# EAGLE library part 74*244 (library we-chip)
74*244 Octal Buffer / Line Driver (3-State) HC - VCC: 2-5.5V - Input: High 2.1V @ 3V / 3.5V @ 5V AHC - VCC: 2-5.5V - Input: 5V tolerant, High 2.1V @ 3V / 3.5V @ 5V HCT - VCC: 4.5-5.5V - Input: High 2V @ 5V AHCT - VCC: 4.5-5.5V - Input: High 2V @ 5V LVC - VCC: 1.65-3.6V - Input: 5V tolerant, High 2V @ 3V
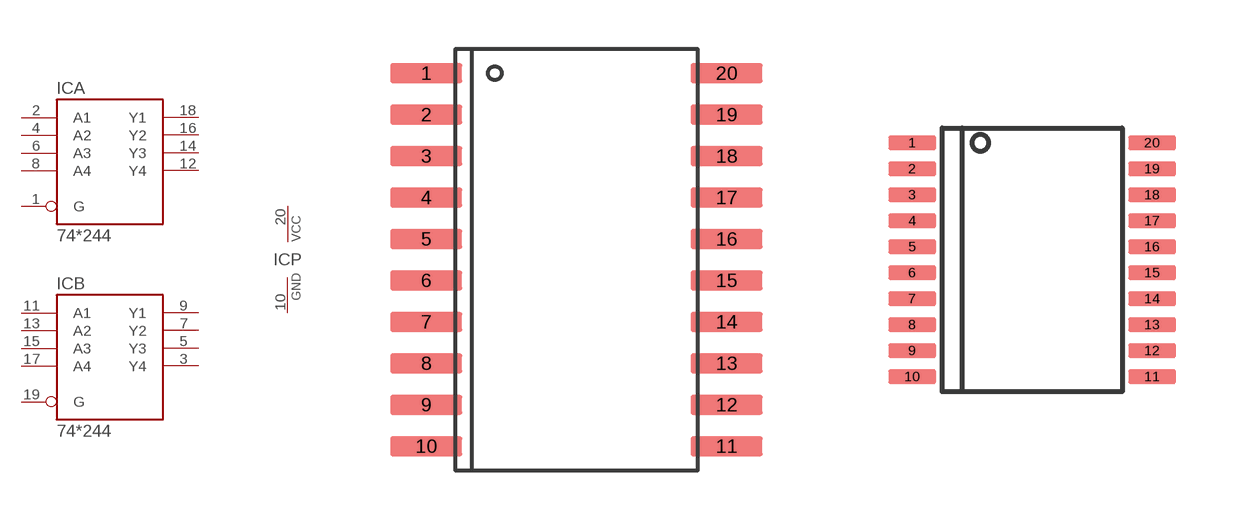
[diagram p0: symbol with the pads of SO20W; footprints SO20W, TSSOP20]

Designator prefix IC; gates A=74244 B=74244 P=GATE_PWR

## 74LVC244DW  [SO20W]
1  A:G  in
2  A:A1  in
3  B:Y4  hiz
4  A:A2  in
5  B:Y3  hiz
6  A:A3  in
7  B:Y2  hiz
8  A:A4  in
9  B:Y1  hiz
10  P:GND  pwr
11  B:A1  in
12  A:Y4  hiz
13  B:A2  in
14  A:Y3  hiz
15  B:A3  in
16  A:Y2  hiz
17  B:A4  in
18  A:Y1  hiz
19  B:G  in
20  P:VCC  pwr

## 74AHC244PW, 74AHCT244PW, 74LVC244PW (DIGIKEY: 568-1583-2-ND)  [TSSOP20]
Pads as for SO20W

## Footprint SO20W (pad centres in mm)
smd 2.2 x 0.6: 1 -4.6,5.715; 2 -4.6,4.445; 3 -4.6,3.175; 4 -4.6,1.905; 5 -4.6,0.635; 6 -4.6,-0.635; 7 -4.6,-1.905; 8 -4.6,-3.175; 9 -4.6,-4.445; 10 -4.6,-5.715; 11 4.6,-5.715; 12 4.6,-4.445; 13 4.6,-3.175; 14 4.6,-1.905; 15 4.6,-0.635; 16 4.6,0.635; 17 4.6,1.905; 18 4.6,3.175; 19 4.6,4.445; 20 4.6,5.715

## Footprint TSSOP20 (pad centres in mm)
smd 1.2 x 0.35: 1 -3,2.925; 2 -3,2.275; 3 -3,1.625; 4 -3,0.975; 5 -3,0.325; 6 -3,-0.325; 7 -3,-0.975; 8 -3,-1.625; 9 -3,-2.275; 10 -3,-2.925; 11 3,-2.925; 12 3,-2.275; 13 3,-1.625; 14 3,-0.975; 15 3,-0.325; 16 3,0.325; 17 3,0.975; 18 3,1.625; 19 3,2.275; 20 3,2.925